# EAGLE library part TMM-104-XX-X-D (library con-samtec-tmm)
HEADER
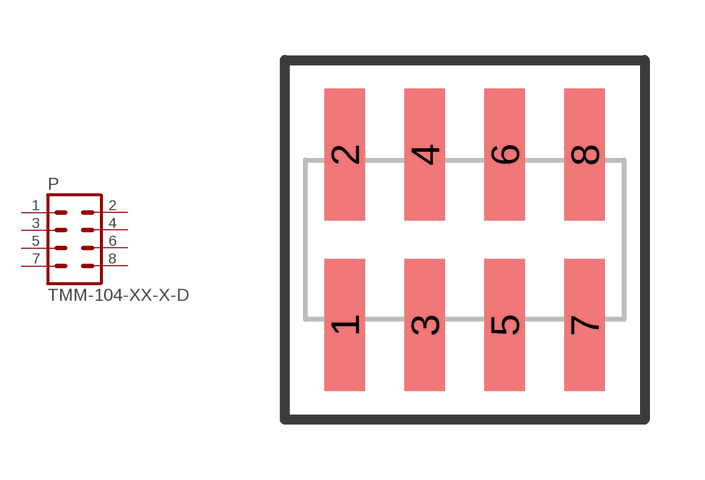
[diagram p1: symbol with the pads of TMM-104-XX-X-D; footprint TMM-104-XX-X-D]

Designator prefix P

## TMM-104-XX-X-D  [TMM-104-XX-X-D]
1  1  pas
2  2  pas
3  3  pas
4  4  pas
5  5  pas
6  6  pas
7  7  pas
8  8  pas

## Footprint TMM-104-XX-X-D (pad centres in mm)
HEADER
smd 1.02 x 3.3: 1 -3,-2.134; 2 -3,2.134; 3 -1,-2.134; 4 -1,2.134; 5 1,-2.134; 6 1,2.134; 7 3,-2.134; 8 3,2.134